# Altium schematic symbol library Kemet.SchLib: 12 symbols
Pins are listed as number, name and electrical type; pins without a type are passive.

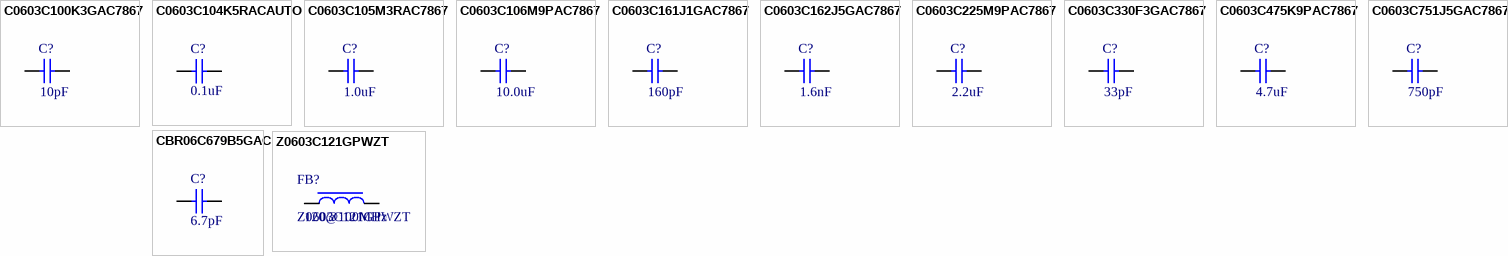
[diagram p0: symbols C0603C100K3GAC7867 to Z0603C121GPWZT]

## C0603C100K3GAC7867
designator C?  value 10pF  (hidden comment: C0603C100K3GAC7867)
CAP CER 10 pF 25V C0G 0603; Manufacturer: Kemet; Tolerance: 10%; PartNumber: C0603C100K3GAC7867; Voltage: 25V
simulation model Capacitor (Capacitor model)
footprint CAP-0603 (Chip Capacitor 0603)
pins: 1, 2

## C0603C104K5RACAUTO
designator C?  value 0.1uF  (hidden comment: C0603C104K5RACAUTO)
CAP CER 0.1uF 50V X7R 0603; Manufacturer: Kemet; Tolerance: 10%; Voltage: 50; PartNumber: C0603C104K5RACAUTO; Supplier 1: Digi-Key; Supplier 2: Mouser; Supplier Part Number 1: 399-6856-1-ND; Supplier Part Number 2: 80-C0603C104K5RAUTO
simulation model Capacitor (Capacitor model)
footprint CAP-0603 (Chip Capacitor 0603)
pins: 1, 2

## C0603C105M3RAC7867
designator C?  value 1.0uF  (hidden comment: C0603C105M3RAC7867)
CAP CER 1uF 25V X7R 0603; Manufacturer: Kemet; Tolerance: 20%; Voltage: 25; PartNumber: C0603C105M3RAC7867; Supplier 1: Digi-Key; Supplier 2: Mouser; Supplier Part Number 1: 399-C0603C105M3RAC7867CT-ND; Supplier Part Number 2: 80-C0603C105M3R
simulation model Capacitor (Capacitor model)
footprint CAP-0603 (Chip Capacitor 0603)
pins: 1, 2

## C0603C106M9PAC7867
designator C?  value 10.0uF  (hidden comment: C0603C106M9PAC7867)
CAP CER 10uF 10V X5R 0603; Manufacturer: Kemet; Tolerance: 20%; Voltage: 10; PartNumber: C0603C106M9PAC7867; Supplier 1: Digi-Key; Supplier 2: Mouser; Supplier Part Number 1: 399-C0603C105M3RAC7867CT-ND; Supplier Part Number 2: 80-C0603C105M3R
simulation model Capacitor (Capacitor model)
footprint CAP-0603 (Chip Capacitor 0603)
pins: 1, 2

## C0603C161J1GAC7867
designator C?  value 160pF  (hidden comment: C0603C161J1GAC7867)
CAP CER 160 pF 100V C0G 0603; Manufacturer: Kemet; Tolerance: 5%; PartNumber: C0603C161J1GAC7867; Voltage: 100V; Supplier 1: Digi-Key; Supplier Part Number 1: 399-15367-1-ND
simulation model Capacitor (Capacitor model)
footprint CAP-0603 (Chip Capacitor 0603)
pins: 1, 2

## C0603C162J5GAC7867
designator C?  value 1.6nF  (hidden comment: C0603C162J5GAC7867)
CAP CER 1600 pF 50V C0G 0603; Manufacturer: Kemet; Tolerance: 5%; Voltage: 50; PartNumber: C0603C162J5GAC7867; Supplier 1: Digi-Key; Supplier 2: Mouser; Supplier Part Number 1: 399-15368-1-ND; Supplier Part Number 2: 80-C0603C162J5G
simulation model Capacitor (Capacitor model)
footprint CAP-0603 (Chip Capacitor 0603)
pins: 1, 2

## C0603C225M9PAC7867
designator C?  value 2.2uF  (hidden comment: C0603C225M9PAC7867)
CAP CER 2.2uF 6.3V X5R 0603; Manufacturer: Kemet; Tolerance: 20%; Voltage: 6.3; PartNumber: C0603C225M9PAC7867
simulation model Capacitor (Capacitor model)
footprint CAP-0603 (Chip Capacitor 0603)
pins: 1, 2

## C0603C330F3GAC7867
designator C?  value 33pF  (hidden comment: C0603C330F3GAC7867)
CAP CER 33 pF 25V C0G 0603; Manufacturer: Kemet; Tolerance: 1%; PartNumber: C0603C330F3GAC7867; Voltage: 25V
simulation model Capacitor (Capacitor model)
footprint CAP-0603 (Chip Capacitor 0603)
pins: 1, 2

## C0603C475K9PAC7867
designator C?  value 4.7uF  (hidden comment: C0603C475K9PAC7867)
CAP CER 4.7uF 6.3V X5R 0603; Manufacturer: Kemet; Tolerance: 20%; Voltage: 6.3; PartNumber: C0603C475K9PAC7867
simulation model Capacitor (Capacitor model)
footprint CAP-0603 (Chip Capacitor 0603)
pins: 1, 2

## C0603C751J5GAC7867
designator C?, comment value 750pF  (hidden comment: C0603C161J1GAC7867)
CAP CER 750 pF 50V C0G 0603; Manufacturer: Kemet; Tolerance: 5%; PartNumber: C0603C161J1GAC7867; Voltage: 50V; Supplier 1: Digi-Key; Supplier 2: Mouser; Supplier Part Number 1: 399-C0603C751J5GAC7867CT-ND; Supplier Part Number 2: 80-C0603C751J5G
simulation model Capacitor (Capacitor model)
footprint CAP-0603 (Chip Capacitor 0603)
pins: 1, 2

## CBR06C679B5GAC
designator C?  value 6.7pF  (hidden comment: CBR06C679B5GAC)
CAP CER 6.7 pF 50V C0G 0603; Manufacturer: Kemet; Tolerance: +/-0.1pF; PartNumber: CBR06C679B5GAC; Supplier 1: Digi-Key; Supplier 2: Mouser; Supplier Part Number 1: 399-C0805C155K4RAC7800CT-ND; Supplier Part Number 2: 80-C0805C155K4R; Voltage: 50V
simulation model Capacitor (Capacitor model)
footprint CAP-0603 (Chip Capacitor 0603)
pins: 1, 2

## Z0603C121GPWZT
designator FB?  value 120@100MHz
Ferrite Bead 120Ohms 900mA 25% DCR=130m; Manufacturer: Kemet; PartNumber: Z0603C121GPWZT; Supplier 1: Digi-Key; Supplier 2: Mouser; Supplier Part Number 1: 399-Z0603C121GPWZTCT-ND; Supplier Part Number 2: 80-Z0603C121GPWZT
footprint IND-0603 (Chip Inductor 0603)
pins: 1, 2